# Altium integrated library DLW5BSM801TQ2L.IntLib: 1 symbol
Pins are listed as number, name and electrical type; pins without a type are passive.

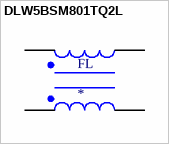
[diagram p0: symbol DLW5BSM801TQ2L]

## DLW5BSM801TQ2L
designator FL
2 Line Common Mode Choke Surface Mount 800 Ohms @ 100MHz 2A DCR 56mOhm; MF: Murata; MP: DLW5BSM801TQ2L; Value: *; SnapEDA_Link: https://www.snapeda.com/parts/DLW5BSM801TQ2L/Murata/view-part/4300902/?ref=snap; Package: Horizontal-4 Murata; DigiKey-Purchase-URL: https://snapeda.com/shop?store=DigiKey&id=4300902; Digi-Key_Part_Number: 490-9569-1-ND
footprint FIL_DLW5BSM801TQ2L
pins: 1, 2, 3, 4